# Altium schematic symbol library SD7-4-B.SchLib: 1 symbol
Pins are listed as number, name and electrical type; pins without a type are passive.

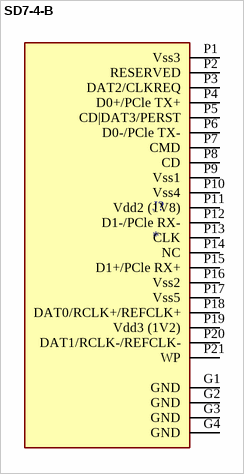
[diagram p0: symbol SD7-4-B]

## SD7-4-B
designator J?
21 (18 + 3) Position Card Connector Secure Digital - SD Surface Mount, Right Angle Gold; MF: Same Sky (Formerly CUI Devices); MP: SD7-4-B; SnapEDA_Link: https://www.snapeda.com/parts/SD7-4-B/Same+Sky/view-part/?ref=snap; Package: None; Value: *; Check_prices: https://www.snapeda.com/parts/SD7-4-B/Same+Sky/view-part/?ref=eda
footprint SAMESKY_SD7-4-B
pins: G1 GND (power), G2 GND (power), G3 GND (power), G4 GND (power), P1 Vss3, P2 RESERVED, P3 DAT2/CLKREQ, P4 D0+/PCle TX+, P5 CD|DAT3/PERST, P6 D0-/PCle TX-, P7 CMD, P8 CD, P9 Vss1, P10 Vss4, P11 Vdd2 (1V8), P12 D1-/PCle RX-, P13 CLK, P14 NC, P15 D1+/PCle RX+, P16 Vss2, P17 Vss5, P18 DAT0/RCLK+/REFCLK+, P19 Vdd3 (1V2), P20 DAT1/RCLK-/REFCLK-, P21 WP